# EAGLE library part MOTOR_CONNECTION (library Pololu Motor mount ENC)
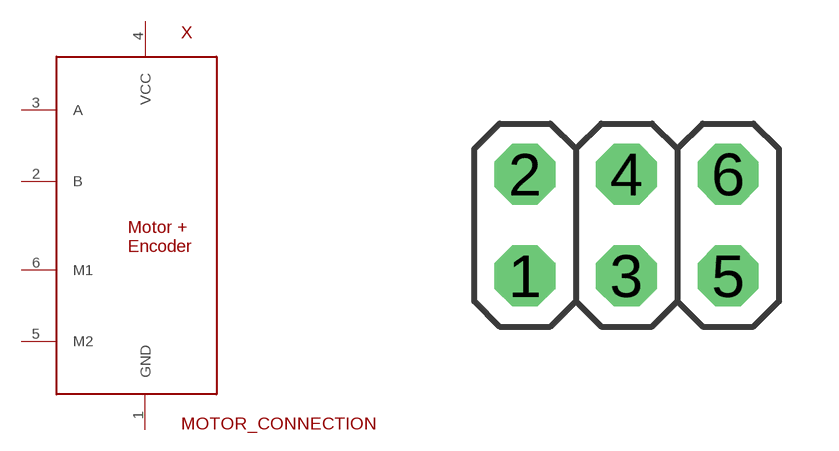
[diagram p1: symbol with the pads of 2X03; footprint 2X03]

Designator prefix X

## MOTOR_CONNECTION  [2X03]
1  GND
2  B
3  A
4  VCC
5  M2
6  M1

## Footprint 2X03 (pad centres in mm)
PIN HEADER
drill 1.016 octagon: 1 -2.54,-1.27; 2 -2.54,1.27; 3 0,-1.27; 4 0,1.27; 5 2.54,-1.27; 6 2.54,1.27